# EAGLE library part B3590 (library rfops)
EPCOS SAW Low-loss RF filter for meter reading
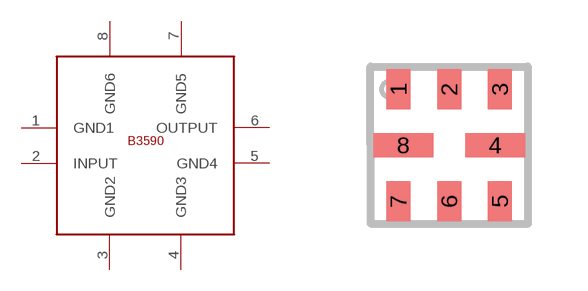
[diagram p14: symbol with the pads of QCC8B; footprint QCC8B]

Designator prefix SAW

## B3590  [QCC8B]
1  GND1  pwr
2  INPUT  in
3  GND2  pwr
4  GND3  pwr
5  GND4  pwr
6  OUTPUT  out
7  GND5  pwr
8  GND6  pwr

## Footprint QCC8B (pad centres in mm)
EPCOS SAW Filter Package
smd 0.6 x 1: 1 -1.27,1.4; 2 0,1.4; 3 1.27,1.4; 5 1.27,-1.4; 6 0,-1.4; 7 -1.27,-1.4
smd 1.5 x 0.6: 4 1.15,0; 8 -1.15,0